# Altium footprint library PcbLib1.PcbLib: 23 footprints (part 2 of 2)
Each footprint in its own frame and in the unit in brackets; x right, y up, seen from the top. Pads: shape width x height; smd on the part's side, far side on the other; paste and mask are expansions set on the pad; w line width, h text height; cw(c..) or ccw(c..) is an arc to the next point about the centre after c.
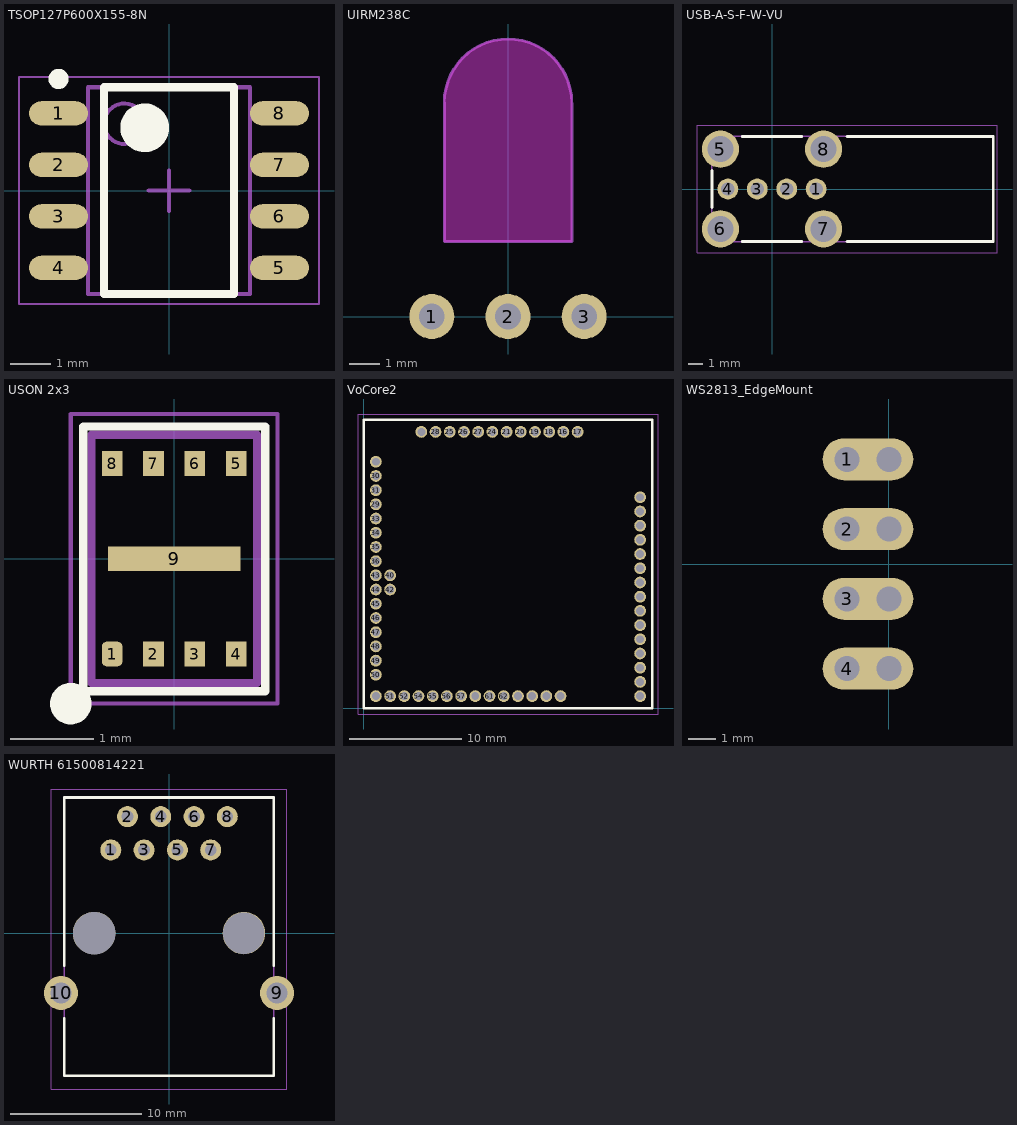
[diagram p1: the footprints below, top view; thin cyan lines are the x and y axes]

## TSOP127P600X155-8N [mm] "TSOP, 8-Leads, Body 4.90x3.90mm, Pitch 1.27mm, IPC Medium Density"
height 1.55
pads (8):
  oval 1.45x0.6 smd: 1(-2.725,1.905) 2(-2.725,0.635) 3(-2.725,-0.635) 4(-2.725,-1.905) 5(2.725,-1.905) 6(2.725,-0.635) 7(2.725,0.635) 8(2.725,1.905)
Top Overlay:
  circle w0.6: c-0.6,1.55 r0.3
  circle w0.25: c-2.725,2.755 r0.125
  lines w0.2: -1.6,-2.55 1.6,-2.55 1.6,2.55 -1.6,2.55 -1.6,-2.55
Mechanical 13:
  circle w0.1: c-1.1,1.65 r0.5
  lines w0.1: -2,-2.55 2,-2.55 2,2.55 -2,2.55 -2,-2.55
Mechanical 15:
  lines w0.05: -3.7,-2.8 3.7,-2.8 3.7,2.8 -3.7,2.8 -3.7,-2.8
  lines w0.1: -0.5,0 0.5,0 ; 0,-0.5 0,0.5
3D body "TSOP127P600X155-8N.step": height 1.55, standoff 0, extent -3,-2.55 3,2.55

## UIRM238C [mm] "Infrared Receiver Module"
pads (3):
  round 1.5 hole 0.85: 1(-2.54,0) 2(0,0) 3(2.54,0)
Keep-Out Layer:
  board cut-out: -2.125,2.5 2.125,2.5 2.125,7.125 2.125,7.334 2.043,7.745 1.883,8.132 1.651,8.48 1.355,8.776 1.007,9.008 0.62,9.168 0.209,9.25 0,9.25 -0.209,9.25 -0.62,9.168 -1.007,9.008 -1.355,8.776 -1.651,8.48 -1.883,8.132 -2.043,7.745 -2.125,7.334 -2.125,7.125
Mechanical 1:
  lines w0.1: -2.125,2.5 -2.125,7.125 cw(c0,7.125) 0,9.25 cw(c0,7.125) 2.125,7.125 2.125,2.5 -2.125,2.5
3D body: height 3, standoff 0.6, extent -2.75,2.75 2.75,9.75
3D body: height 1.3, standoff -0.7, extent -2,2.775 2,9.025

## USB-A-S-F-W-VU [mil] "USB A, SINGLE, VERTICAL UPRIGHT THOUGH HOLE"
pads (8):
  round 56 hole 36: 1(118.5,0) 2(39.5,0) 3(-39.5,0) 4(-118.5,0)
  round 100 hole 70: 5(-138.5,107) 6(-138.5,-107) 7(138.5,-107) 8(138.5,107)
Top Overlay:
  lines w7.87: -161.5,-50 -161.5,50 ; -80,-141.5 80,-141.5 ; -80,141.5 80,141.5 ; 201.5,-141.5 594.5,-141.5 594.5,141.5 201.5,141.5
Mechanical 13:
  lines w3.94: -161.5,-141.5 594.5,-141.5 594.5,141.5 -161.5,141.5 -161.5,-141.5
Mechanical 15:
  lines w1.97: -201.5,-171.5 -201.5,171.5 604.5,171.5 604.5,-171.5 -201.5,-171.5
3D body "USB-A-S-F-W-VU.stp": height 580.43, standoff -134.52, extent -161.4,-141.73 594.5,141.73

## USON 2x3 [mm] "PG-USON-8-1-Package_Overview.pdf"
height 0.6
pads (9):
  rrect50% 0.25x0.3 smd: 1(-0.75,-1.15)
  rect 0.25x0.3 smd: 2(-0.25,-1.15) 3(0.25,-1.15) 4(0.75,-1.15) 5(0.75,1.15) 6(0.25,1.15) 7(-0.25,1.15) 8(-0.75,1.15)
  rect 1.6x0.3 smd: 9(0,0)
Top Overlay:
  circle w0.25: c-1.25,-1.75 r0.125
  lines w0.1: -1.1,-1.6 1.1,-1.6 1.1,1.6 -1.1,1.6 -1.1,-1.6
Mechanical 13:
  lines w0.1: -1,-1.5 -1,1.5 1,1.5 1,-1.5 -1,-1.5
Mechanical 15:
  lines w0.05: -1.25,-1.75 -1.25,1.75 1.25,1.75 1.25,-1.75 -1.25,-1.75
3D body: height 0.5, standoff 0.02, extent -1,-1.5 1,1.5

## VoCore2 [mm] "VoCore2: The Coin-sized Linux Computer"
pads (59):
  round 1.05 hole 0.7: 16(17.856,24.714) 17(19.126,24.714) 18(16.586,24.714) 19(15.316,24.714) 20(14.046,24.714) 21(12.776,24.714) 24(11.506,24.714) 25(7.696,24.714) 26(8.966,24.714) 27(10.236,24.714) 28(6.426,24.714) 29(1.092,18.237) 30(1.092,20.777) 31(1.092,19.507) 33(1.092,16.967) 34(1.092,15.697) 35(1.092,14.427) 36(1.092,13.157) 40(2.362,11.887) 42(2.362,10.617) 43(1.092,11.887) 44(1.092,10.617) 45(1.092,9.347) 46(1.092,8.077) 47(1.092,6.807) 48(1.092,5.537) 49(1.092,4.267) 50(1.092,2.997) 51(2.362,1.092) 52(3.632,1.092) 54(4.902,1.092) 55(6.172,1.092) 56(7.442,1.092) 57(8.712,1.092) 61(11.252,1.092) 62(12.522,1.092) 136(24.714,6.172) 137(24.714,7.442) 138(24.714,8.712) 139(24.714,12.522) 140(24.714,13.792) 141(24.714,15.062) 142(24.714,9.982) 143(24.714,11.252) 147(24.714,16.332) 148(24.714,17.602) +1.8VO_1(24.714,1.092) +3.3VO_1(1.092,22.047) +3.3VO_2(9.982,1.092) +3.3VO_3(24.714,4.902) +5.0VI_1(13.792,1.092) +5.0VI_2(15.062,1.092) GND_1(5.156,24.714) GND_2(1.092,1.092) GND_3(16.332,1.092) GND_4(17.602,1.092) GND_5(24.714,18.872) GND_6(24.714,3.632) GND_7(24.714,2.362)
Top Overlay:
  lines w0.2: 0,0 25.806,0 25.806,25.806 0,25.806 0,0
Mechanical 13:
  lines w0.1: 0,0 0,25.806 25.806,25.806 25.806,0 0,0
Mechanical 15:
  lines w0.05: -0.508,-0.508 26.314,-0.508 26.314,26.314 -0.508,26.314 -0.508,-0.508

## WS2813_EdgeMount [mm] "Hand drawn, Castellated edge mount connector for WS2813"
pads (4):
  oval 3.25x1.5 hole 0.9 copper offset 0.75,0: 1(-1.5,3.75)
  oval 3.25x1.5 / inner oval 3x1.25 / far side oval 3.25x1.5 hole 0.9 copper offset 0.75,0: 2(-1.5,1.25) 3(-1.5,-1.25) 4(-1.5,-3.75)
via 0,-3.75 diameter 1.5 hole 0.9
via 0,-1.25 diameter 1.5 hole 0.9
via 0,1.25 diameter 1.5 hole 0.9
via 0,3.75 diameter 1.5 hole 0.9

## WURTH 61500814221 [mm] "CONN MOD JACK 8P8C R/A SHIELDED"
pads (12):
  round 1.6 hole 0.9: 1(-4.44,6.35) 2(-3.17,8.89) 3(-1.9,6.35) 4(-0.63,8.89) 5(0.64,6.35) 6(1.91,8.89) 7(3.18,6.35) 8(4.45,8.89)
  round 2.6 hole 1.6: 9(8.245,-4.57) 10(-8.245,-4.57)
  round 3.25 hole 3.25 unplated: ""(-5.715,0)
  round 3.25 hole 3.17 unplated: ""(5.715,0)
Top Overlay:
  lines w0.2: -8,-6.5 -8,-10.9 8,-10.9 8,-6.5 ; -8,-2.5 -8,10.35 8,10.35 8,-2.5
Mechanical 13:
  lines w0.1: -8,-10.9 -8,10.35 8,10.35 8,-10.9 -8,-10.9
Mechanical 15:
  lines w0.05: -9,-11.9 9,-11.9 9,11 -9,11 -9,-11.9
3D body "STEP-61500814221-rev1.stp": height 13.9, standoff -3.7, extent -7.905,-10.75 7.895,10.45